# Altium schematic symbol library 2015-02-06_15-55-14.SchLib: 27 symbols
Pins are listed as number, name and electrical type; pins without a type are passive.

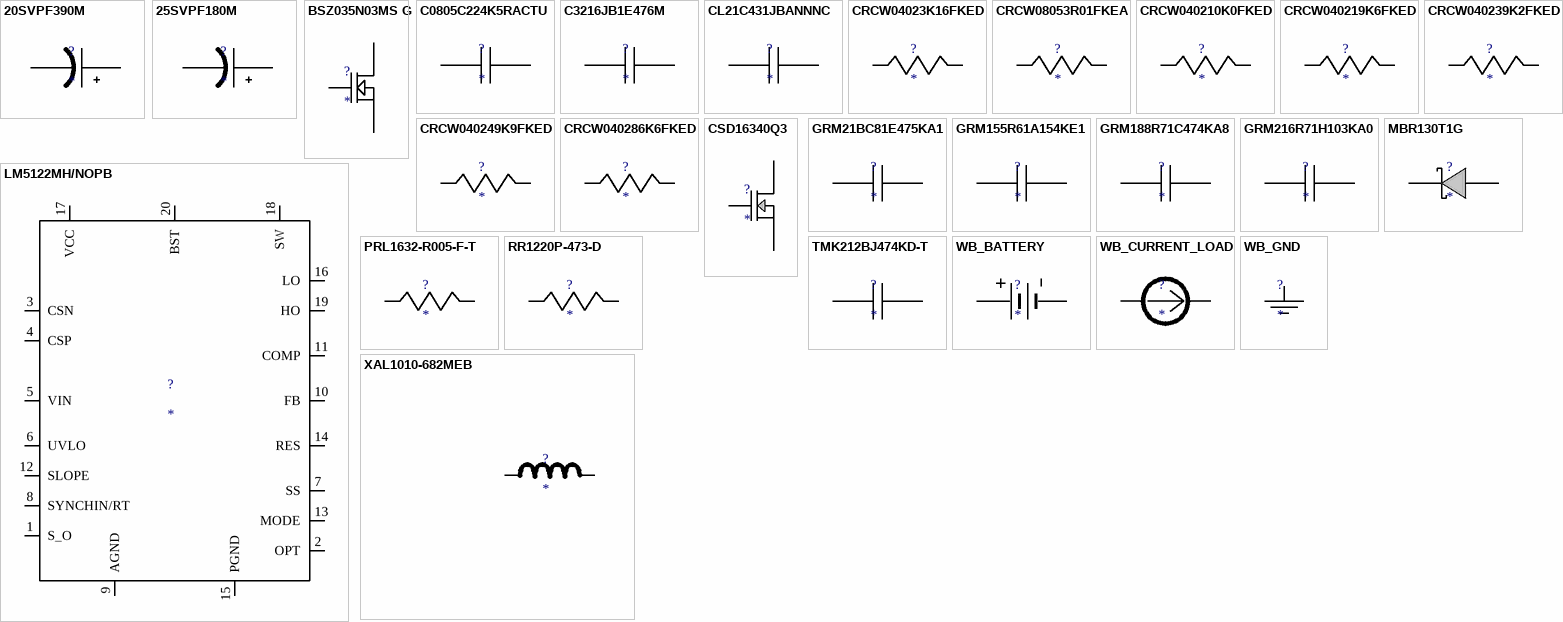
[diagram p0: symbols 20SVPF390M to XAL1010-682MEB]

## 20SVPF390M
designator ?
Imported; Manufacturer_Part_Number: 20SVPF390M; Vendor: Panasonic; Manufacturer_Name: Panasonic; RefDes: RefDes; TYPE: TYPE; Value: Value
footprint CAPSMT_62_E12
pins: 1 +, 2 -

## 25SVPF180M
designator ?
Imported; Manufacturer_Part_Number: 25SVPF180M; Vendor: Panasonic; Manufacturer_Name: Panasonic; RefDes: RefDes; TYPE: TYPE; Value: Value
footprint CAPSMT_62_E12
pins: 1 +, 2 -

## BSZ035N03MS G
designator ?
Imported; Manufacturer_Part_Number: BSZ035N03MS G; Vendor: Infineon Technologies; Manufacturer_Name: Infineon Technologies; RefDes: RefDes; TYPE: TYPE; Value: Value
footprint PG-TSDSON-8
pins: 1 Source, 2 Source, 3 Source, 4 Gate, 5 Drain, 6 Drain, 7 Drain, 8 Drain, 9 Drain

## C0805C224K5RACTU
designator ?
Imported; Manufacturer_Part_Number: C0805C224K5RACTU; Vendor: Kemet; Manufacturer_Name: Kemet; RefDes: RefDes; TYPE: TYPE; Value: Value
footprint 0805
pins: 1, 2

## C3216JB1E476M
designator ?
Imported; Manufacturer_Part_Number: C3216JB1E476M; Vendor: TDK; Manufacturer_Name: TDK; RefDes: RefDes; TYPE: TYPE; Value: Value
footprint 1206
pins: 1, 2

## CL21C431JBANNNC
designator ?
Imported; Manufacturer_Part_Number: CL21C431JBANNNC; Vendor: Samsung Electro-Mechanics; Manufacturer_Name: Samsung Electro-Mechanics; RefDes: RefDes; TYPE: TYPE; Value: Value
footprint 0805
pins: 1, 2

## CRCW04023K16FKED
designator ?
Imported; Manufacturer_Part_Number: CRCW04023K16FKED; Vendor: Vishay-Dale; Manufacturer_Name: Vishay-Dale; RefDes: RefDes; TYPE: TYPE; Value: Value
footprint 0402
pins: 1, 2

## CRCW08053R01FKEA
designator ?
Imported; Manufacturer_Part_Number: CRCW08053R01FKEA; Vendor: Vishay-Dale; Manufacturer_Name: Vishay-Dale; RefDes: RefDes; TYPE: TYPE; Value: Value
footprint 0805
pins: 1, 2

## CRCW040210K0FKED
designator ?
Imported; Manufacturer_Part_Number: CRCW040210K0FKED; Vendor: Vishay-Dale; Manufacturer_Name: Vishay-Dale; RefDes: RefDes; TYPE: TYPE; Value: Value
footprint 0402
pins: 1, 2

## CRCW040219K6FKED
designator ?
Imported; Manufacturer_Part_Number: CRCW040219K6FKED; Vendor: Vishay-Dale; Manufacturer_Name: Vishay-Dale; RefDes: RefDes; TYPE: TYPE; Value: Value
footprint 0402
pins: 1, 2

## CRCW040239K2FKED
designator ?
Imported; Manufacturer_Part_Number: CRCW040239K2FKED; Vendor: Vishay-Dale; Manufacturer_Name: Vishay-Dale; RefDes: RefDes; TYPE: TYPE; Value: Value
footprint 0402
pins: 1, 2

## CRCW040249K9FKED
designator ?
Imported; Manufacturer_Part_Number: CRCW040249K9FKED; Vendor: Vishay-Dale; Manufacturer_Name: Vishay-Dale; RefDes: RefDes; TYPE: TYPE; Value: Value
footprint 0402
pins: 1, 2

## CRCW040286K6FKED
designator ?
Imported; Manufacturer_Part_Number: CRCW040286K6FKED; Vendor: Vishay-Dale; Manufacturer_Name: Vishay-Dale; RefDes: RefDes; TYPE: TYPE; Value: Value
footprint 0402
pins: 1, 2

## CSD16340Q3
designator ?
Imported; Manufacturer_Part_Number: CSD16340Q3; Vendor: Texas Instruments; Manufacturer_Name: Texas Instruments; RefDes: RefDes; TYPE: TYPE; Value: Value
footprint TRANS_NexFET_Q3
pins: 1 Source, 2 Source, 3 Source, 4 Gate, 5 Drain, 6 Drain, 7 Drain, 8 Drain, 9 Drain

## GRM21BC81E475KA1
designator ?
Imported; Manufacturer_Part_Number: GRM21BC81E475KA12L; Vendor: MuRata; Manufacturer_Name: MuRata; RefDes: RefDes; TYPE: TYPE; Value: Value
footprint 0805
pins: 1, 2

## GRM155R61A154KE1
designator ?
Imported; Manufacturer_Part_Number: GRM155R61A154KE19D; Vendor: MuRata; Manufacturer_Name: MuRata; RefDes: RefDes; TYPE: TYPE; Value: Value
footprint 0402
pins: 1, 2

## GRM188R71C474KA8
designator ?
Imported; Manufacturer_Part_Number: GRM188R71C474KA88D; Vendor: MuRata; Manufacturer_Name: MuRata; RefDes: RefDes; TYPE: TYPE; Value: Value
footprint 0603
pins: 1, 2

## GRM216R71H103KA0
designator ?
Imported; Manufacturer_Part_Number: GRM216R71H103KA01D; Vendor: MuRata; Manufacturer_Name: MuRata; RefDes: RefDes; TYPE: TYPE; Value: Value
footprint 0805
pins: 1, 2

## LM5122MH/NOPB
designator ?
Imported; Manufacturer_Part_Number: LM5122MH/NOPB; Vendor: Texas Instruments; Manufacturer_Name: Texas Instruments; RefDes: RefDes; TYPE: TYPE; Value: Value
footprint MXA20A
pins: 1 S_O, 2 OPT, 3 CSN, 4 CSP, 5 VIN, 6 UVLO, 7 SS, 8 SYNCHIN/RT, 9 AGND, 10 FB, 11 COMP, 12 SLOPE, 13 MODE, 14 RES, 15 PGND, 16 LO, 17 VCC, 18 SW, 19 HO, 20 BST, 21 PGND

## MBR130T1G
designator ?
Imported; Manufacturer_Part_Number: MBR130T1G; Vendor: ON Semiconductor; Manufacturer_Name: ON Semiconductor; RefDes: RefDes; Type: Type; Value: Value
footprint SOD-123
pins: 1 K, 2 A

## PRL1632-R005-F-T
designator ?
Imported; Manufacturer_Part_Number: PRL1632-R005-F-T1; Vendor: Susumu Co Ltd; Manufacturer_Name: Susumu Co Ltd; RefDes: RefDes; TYPE: TYPE; Value: Value
footprint 1206
pins: 1, 2

## RR1220P-473-D
designator ?
Imported; Manufacturer_Part_Number: RR1220P-473-D; Vendor: Susumu Co Ltd; Manufacturer_Name: Susumu Co Ltd; RefDes: RefDes; TYPE: TYPE; Value: Value
footprint 0805
pins: 1, 2

## TMK212BJ474KD-T
designator ?
Imported; Manufacturer_Part_Number: TMK212BJ474KD-T; Vendor: Taiyo Yuden; Manufacturer_Name: Taiyo Yuden; RefDes: RefDes; TYPE: TYPE; Value: Value
footprint 0805
pins: 1, 2

## WB_BATTERY
designator ?
Imported; Manufacturer_Part_Number: WB_BATTERY; PowerPortType: POWER_GROUND; Value: Value; Manufacturer_Name: WB_BATTERY; RefDes: RefDes; TYPE: TYPE
pins: 1 +, 2 -

## WB_CURRENT_LOAD
designator ?
Imported; Manufacturer_Part_Number: WB_CURRENT_LOAD; PowerPortType: POWER_GROUND; Value: Value; Manufacturer_Name: WB_CURRENT_LOAD; RefDes: RefDes; TYPE: TYPE
pins: 1 +, 2 -

## WB_GND
designator ?
Imported; Manufacturer_Part_Number: WB_GND; PowerPortType: POWER_GROUND; Value: Value; Manufacturer_Name: WB_GND; RefDes: RefDes; TYPE: TYPE
pins: 1

## XAL1010-682MEB
designator ?
Imported; Manufacturer_Part_Number: XAL1010-682MEB; Vendor: Coilcraft; Manufacturer_Name: Coilcraft; RefDes: RefDes; TYPE: TYPE; Value: Value
footprint XAL1010
pins: 1, 2